# Altium footprint library DAC8552_Dream.PcbLib: 1 footprints
Each footprint in its own frame and in the unit in brackets; x right, y up, seen from the top. Pads: shape width x height; smd on the part's side, far side on the other; paste and mask are expansions set on the pad; w line width, h text height; cw(c..) or ccw(c..) is an arc to the next point about the centre after c.
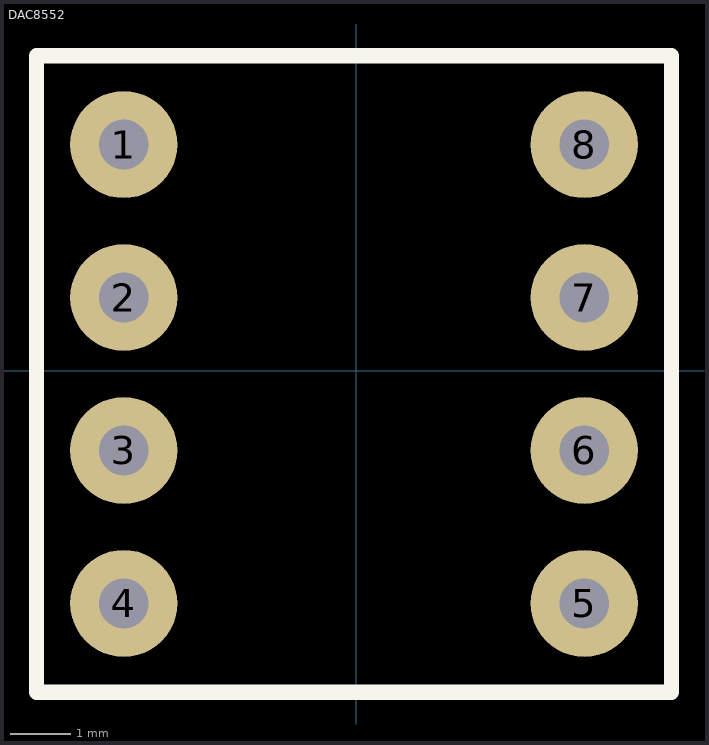
[diagram p0: the footprint, top view; thin cyan lines are the x and y axes]

## DAC8552 [mil]
pads (8):
  round 70 hole 32.5: 1(-152,148) 2(-152,48) 3(-152,-52) 4(-152,-152) 5(149,-152) 6(149,-52) 7(149,48) 8(149,148)
Top Overlay:
  lines w10: -209,-210 -209,206 206,206 206,-210 -205,-210 -209,-210